# Altium footprint library MLACHL_L.PCBLIB: 254 footprints (part 2 of 16)
Each footprint in its own frame and in the unit in brackets; x right, y up, seen from the top. Pads: shape width x height; smd on the part's side, far side on the other; paste and mask are expansions set on the pad; w line width, h text height; cw(c..) or ccw(c..) is an arc to the next point about the centre after c.
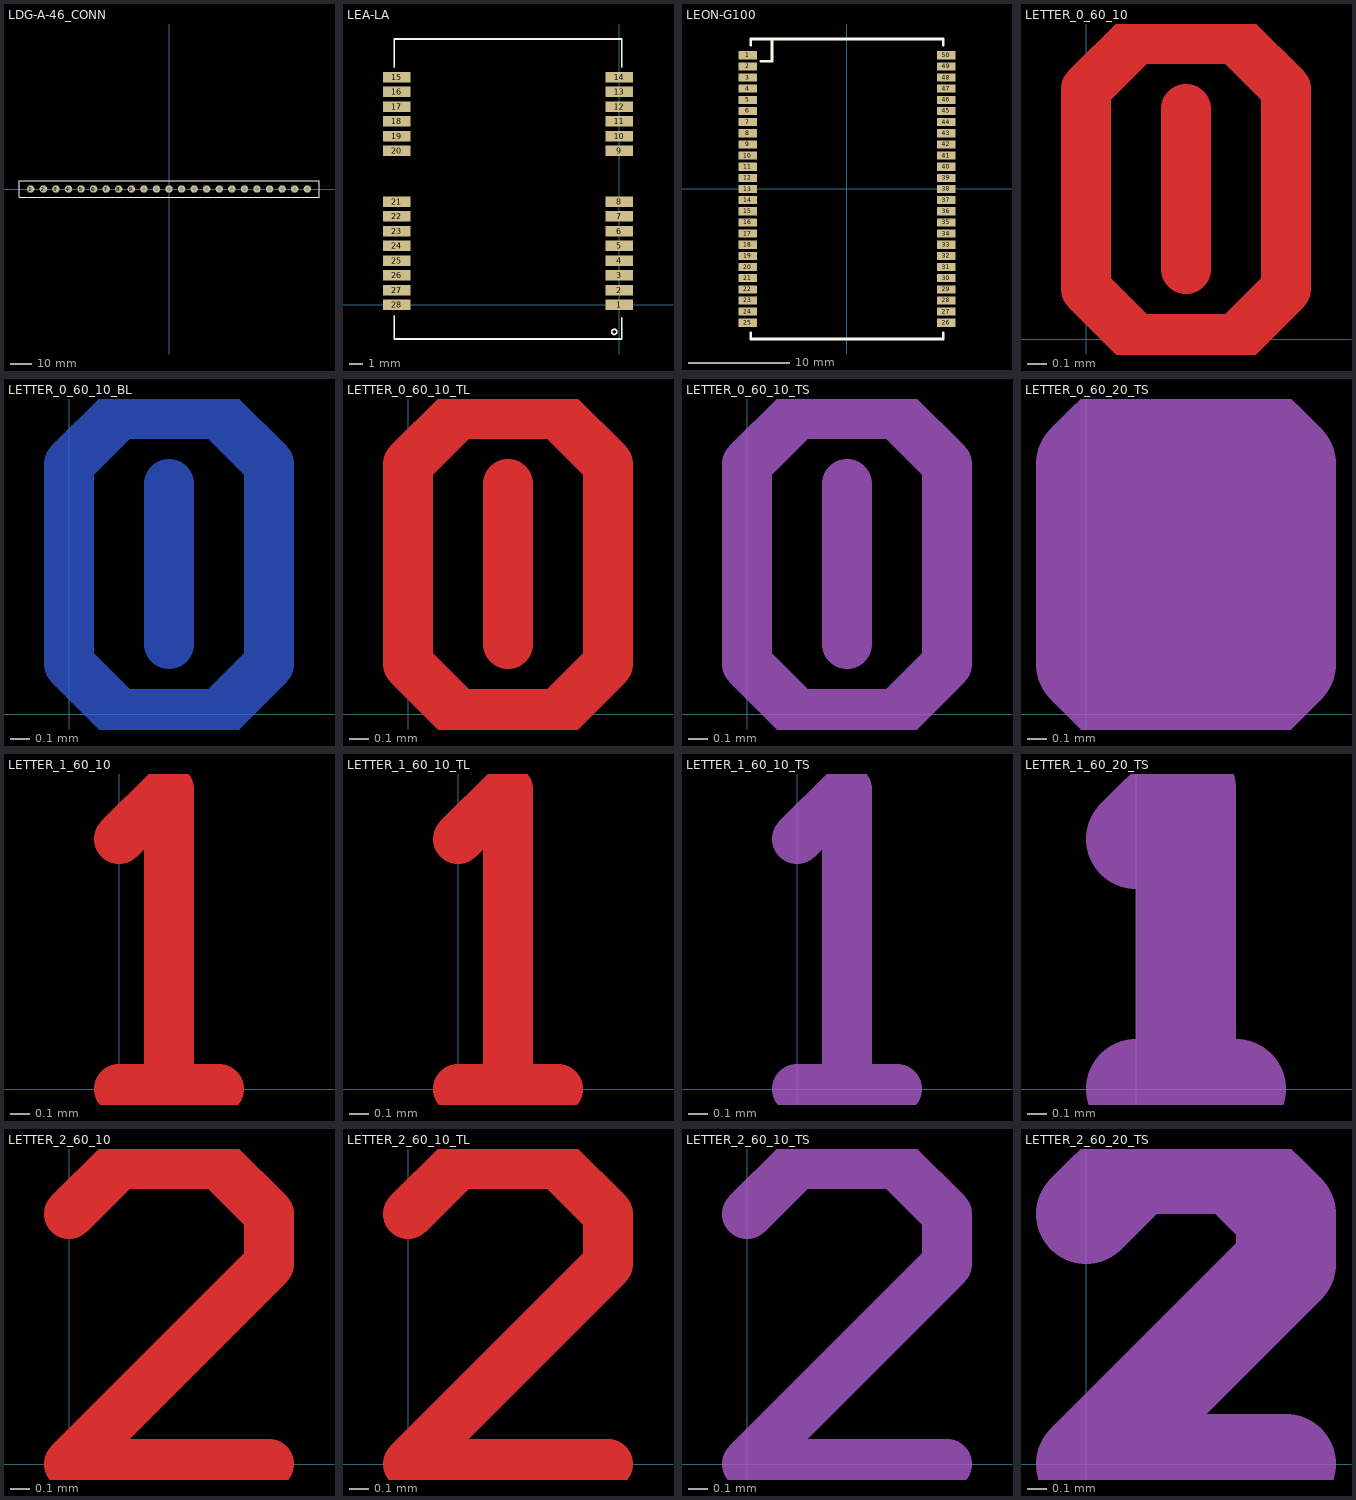
[diagram p1: the footprints below, top view; thin cyan lines are the x and y axes]

## LDG-A-46_CONN [mil]
pads (23):
  round 140 hole 70: 1(-2598.43,0) 2(-2362.2,0) 3(-2125.98,0) 4(-1889.76,0) 5(-1653.54,0) 6(-1417.32,0) 7(-1181.1,0) 8(-944.88,0) 9(-708.66,0) 10(-472.44,0) 11(-236.22,0) 12(0,0) 13(236.22,0) 14(472.44,0) 15(708.66,0) 16(944.88,0) 17(1181.1,0) 18(1417.32,0) 19(1653.54,0) 20(1889.76,0) 21(2125.98,0) 22(2362.2,0) 23(2598.43,0)
TopOverlay:
  lines w10: -2818.9,-153.54 2818.9,-153.54 2818.9,153.54 -2818.9,153.54 -2818.9,-153.54

## LEA-LA [mil]
pads (28):
  rect 80x31 smd mask+10: 1(0,0) 2(0,43.31) 3(0,86.61) 4(0,129.92) 5(0,173.23) 6(0,216.54) 7(0,259.84) 8(0,303.15) 9(0,452.76) 10(0,496.06) 11(0,539.37) 12(0,582.68) 13(0,625.98) 14(0,669.29) 15(-654.33,669.29) 16(-654.33,625.98) 17(-654.33,582.68) 18(-654.33,539.37) 19(-654.33,496.06) 20(-654.33,452.76) 21(-654.33,303.15) 22(-654.33,259.84) 23(-654.33,216.54) 24(-654.33,173.23) 25(-654.33,129.92) 26(-654.33,86.61) 27(-654.33,43.31) 28(-654.33,0)
TopOverlay:
  lines w5: -661.81,-32.71 -661.81,-100.39 7.48,-100.39 7.48,-37.71 ; -661.81,698.29 -661.81,781.5 7.48,781.5 7.48,699.29 ; -22.17,-79.45 cw(c-14.67,-79.45) -7.17,-79.45 cw(c-14.67,-79.45) -22.17,-79.45

## LEON-G100 [mm]
pads (50):
  rect 1.8x0.8 smd mask+0.254: 1(-9.8,13.2) 2(-9.8,12.1) 3(-9.8,11) 4(-9.8,9.9) 5(-9.8,8.8) 6(-9.8,7.7) 7(-9.8,6.6) 8(-9.8,5.5) 9(-9.8,4.4) 10(-9.8,3.3) 11(-9.8,2.2) 12(-9.8,1.1) 13(-9.8,0) 14(-9.8,-1.1) 15(-9.8,-2.2) 16(-9.8,-3.3) 17(-9.8,-4.4) 18(-9.8,-5.5) 19(-9.8,-6.6) 20(-9.8,-7.7) 21(-9.8,-8.8) 22(-9.8,-9.9) 23(-9.8,-11) 24(-9.8,-12.1) 25(-9.8,-13.2) 26(9.8,-13.2) 27(9.8,-12.1) 28(9.8,-11) 29(9.8,-9.9) 30(9.8,-8.8) 31(9.8,-7.7) 32(9.8,-6.6) 33(9.8,-5.5) 34(9.8,-4.4) 35(9.8,-3.3) 36(9.8,-2.2) 37(9.8,-1.1) 38(9.8,0) 39(9.8,1.1) 40(9.8,2.2) 41(9.8,3.3) 42(9.8,4.4) 43(9.8,5.5) 44(9.8,6.6) 45(9.8,7.7) 46(9.8,8.8) 47(9.8,9.9) 48(9.8,11) 49(9.8,12.1) 50(9.8,13.2)
TopOverlay:
  lines w0.254: -9.5,-14.2 -9.5,-14.8 ; -9.5,14.2 -9.5,14.8 ; -8.5,12.6 -7.4,12.6 -7.4,14.8 ; 9.5,-14.2 9.5,-14.8 -9.5,-14.8 ; 9.5,14.2 9.5,14.8 -9.5,14.8 ; -9.5,-14.8 -9.5,-14.8 ; -9.5,14.8 -9.5,14.8
3D body: height 3, standoff 0, extent -9.5,-14.8 9.5,14.8

## LETTER_0_60_10 [mm]
TopLayer:
  lines w0.254: 0.508,0.356 0.508,1.168 ; 0,0.254 0.254,0 0.762,0 1.016,0.254 1.016,1.27 0.762,1.524 0.254,1.524 0,1.27 0,0.254
TopSolder:
  lines w0.508: 0.508,0.356 0.508,1.168 ; 0,0.254 0.254,0 0.762,0 1.016,0.254 1.016,1.27 0.762,1.524 0.254,1.524 0,1.27 0,0.254
3D body: height 0.3, standoff 0, extent -0.127,-0.127 1.143,1.651
3D body: height 0.3, standoff 0, extent 0.381,0.229 0.635,1.295

## LETTER_0_60_10_BL [mm]
BottomLayer:
  lines w0.254: 0.508,0.356 0.508,1.168 ; 0,0.254 0,1.27 0.254,1.524 0.762,1.524 1.016,1.27 1.016,0.254 0.762,0 0.254,0 0,0.254

## LETTER_0_60_10_TL [mm]
TopLayer:
  lines w0.254: 0.508,0.356 0.508,1.168 ; 0,0.254 0,1.27 0.254,1.524 0.762,1.524 1.016,1.27 1.016,0.254 0.762,0 0.254,0 0,0.254
3D body: height 0.3, standoff 0, extent 0.381,0.229 0.635,1.295
3D body: height 0.3, standoff 0, extent -0.127,-0.127 1.143,1.651

## LETTER_0_60_10_TS [mm]
TopSolder:
  lines w0.254: 0.508,0.356 0.508,1.168 ; 0,0.254 0.254,0 0.762,0 1.016,0.254 1.016,1.27 0.762,1.524 0.254,1.524 0,1.27 0,0.254

## LETTER_0_60_20_TS [mm]
TopSolder:
  lines w0.508: 0.508,0.356 0.508,1.168 ; 0,0.254 0,1.27 0.254,1.524 0.762,1.524 1.016,1.27 1.016,0.254 0.762,0 0.254,0 0,0.254

## LETTER_1_60_10 [mm]
TopLayer:
  lines w0.254: 0,0 0.508,0 ; 0,1.27 0.254,1.524 0.254,0
TopSolder:
  lines w0.508: 0,0 0.508,0 ; 0,1.27 0.254,1.524 0.254,0
3D body: height 0.3, standoff 0, extent -0.127,-0.127 0.635,1.651

## LETTER_1_60_10_TL [mm]
TopLayer:
  lines w0.254: 0,0 0.508,0 ; 0,1.27 0.254,1.524 0.254,0
3D body: height 0.3, standoff 0, extent -0.127,-0.127 0.635,1.651

## LETTER_1_60_10_TS [mm]
TopSolder:
  lines w0.254: 0,0 0.508,0 ; 0,1.27 0.254,1.524 0.254,0

## LETTER_1_60_20_TS [mm]
TopSolder:
  lines w0.508: 0,0 0.508,0 ; 0,1.27 0.254,1.524 0.254,0

## LETTER_2_60_10 [mm]
TopLayer:
  lines w0.254: 0,1.27 0.254,1.524 0.762,1.524 1.016,1.27 1.016,1.016 0,0 1.016,0
TopSolder:
  lines w0.508: 0,1.27 0.254,1.524 0.762,1.524 1.016,1.27 1.016,1.016 0,0 1.016,0
3D body: height 0.3, standoff 0, extent -0.127,-0.127 1.143,1.651

## LETTER_2_60_10_TL [mm]
TopLayer:
  lines w0.254: 0,1.27 0.254,1.524 0.762,1.524 1.016,1.27 1.016,1.016 0,0 1.016,0
3D body: height 0.3, standoff 0, extent -0.127,-0.127 1.143,1.651

## LETTER_2_60_10_TS [mm]
TopSolder:
  lines w0.254: 0,1.27 0.254,1.524 0.762,1.524 1.016,1.27 1.016,1.016 0,0 1.016,0

## LETTER_2_60_20_TS [mm]
TopSolder:
  lines w0.508: 0,1.27 0.254,1.524 0.762,1.524 1.016,1.27 1.016,1.016 0,0 1.016,0